# Altium schematic symbol library SN65LVDT2.Schlib: 1 symbol
Pins are listed as number, name and electrical type; pins without a type are passive.

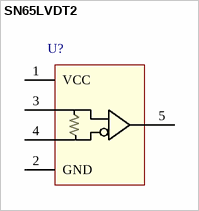
[diagram p0: symbol SN65LVDT2]

## SN65LVDT2
designator U?  (value not drawn)
Differential Line Receiver
pins: 1 VCC, 2 GND, 3 A, 4 B, 5 OUT